# Altium footprint library QUTMS_RelayLibrary.PcbLib: 3 footprints
Each footprint in its own frame and in the unit in brackets; x right, y up, seen from the top. Pads: shape width x height; smd on the part's side, far side on the other; paste and mask are expansions set on the pad; w line width, h text height; cw(c..) or ccw(c..) is an arc to the next point about the centre after c.
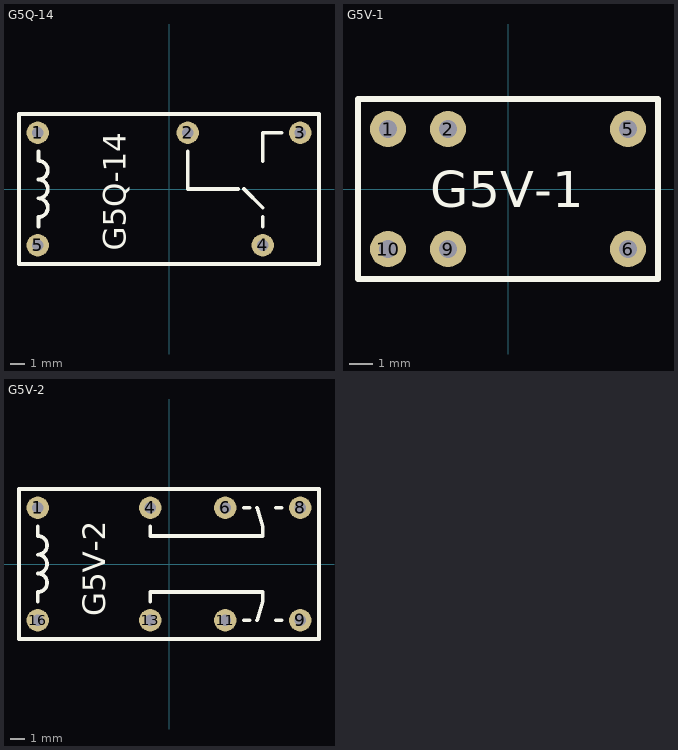
[diagram p0: the footprints below, top view; thin cyan lines are the x and y axes]

## G5Q-14 [mil]
pads (5):
  round 60 hole 30: 1(-350,150) 2(50,150) 3(350,150) 4(250,-150) 5(-350,-150)
Top Overlay:
  lines w10: -348.3,-99.83 -348.3,-74.83 ccw(c-348.3,-49.83) -348.3,-24.83 ccw(c-348.3,0.17) -348.3,25.17 ccw(c-348.3,50.17) -348.3,75.17 -348.3,100.17 ; 50,100 50,0 185,0 ; 200,0 250,-50 ; 250,-100 250,-75 ; 250,75 250,150 300,150 ; -400,-200 400,-200 400,200 -400,200 -400,-200
  text "G5Q-14" at -115,-165 h60
3D body "G5Q_14.step": height 637.8, standoff -133.86, extent -402.36,-202.75 396.85,202.76

## G5V-1 [mil]
pads (6):
  round 60 hole 30: 1(-200,100) 2(-100,100) 5(200,100) 6(200,-100) 9(-100,-100) 10(-200,-100)
Top Overlay:
  lines w10: -250,-150 250,-150 250,150 -250,150 -250,-150
  text "G5V-1" at -129.96,-30 h60
3D body "G5V_1.x_t": height 393.7, standoff -137.8, extent -242.12,-147.63 250.01,147.64

## G5V-2 [mil]
pads (8):
  round 60 hole 30: 1(-350,150) 4(-50,150) 6(150,150) 8(350,150) 9(350,-150) 11(150,-150) 13(-50,-150) 16(-350,-150)
Top Overlay:
  lines w10: -350,-100 -350,-75 ccw(c-350,-50) -350,-25 ccw(c-350,0) -350,25 ccw(c-350,50) -350,75 -350,100 ; -50,-100 -50,-75 250,-75 250,-100 235,-150 ; -50,100 -50,75 250,75 250,100 235,150 ; 200,-150 215,-150 ; 200,150 215,150 ; 285,-150 300,-150 ; 285,150 300,150 ; -400,-200 400,-200 400,200 -400,200 -400,-200
  text "G5V-2" at -170,-139.95 h60
3D body "G5V_2.step": height 452.76, standoff -137.8, extent -403.54,-198.81 403.55,198.83